# Altium schematic symbol library M41T82.Schlib: 1 symbol
Pins are listed as number, name and electrical type; pins without a type are passive.

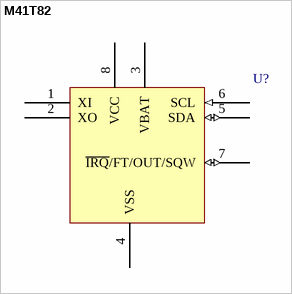
[diagram p0: symbol M41T82]

## M41T82
designator U?
pins: 1 XI, 2 XO, 3 VBAT (power), 4 VSS (power), 5 SDA (io), 6 SCL (in), 7 ~{IRQ}/FT/OUT/SQW (io), 8 VCC (power)
1 alternate drawing of the same symbol